# EAGLE library part LAZURITE_BASIC (library lazurite)
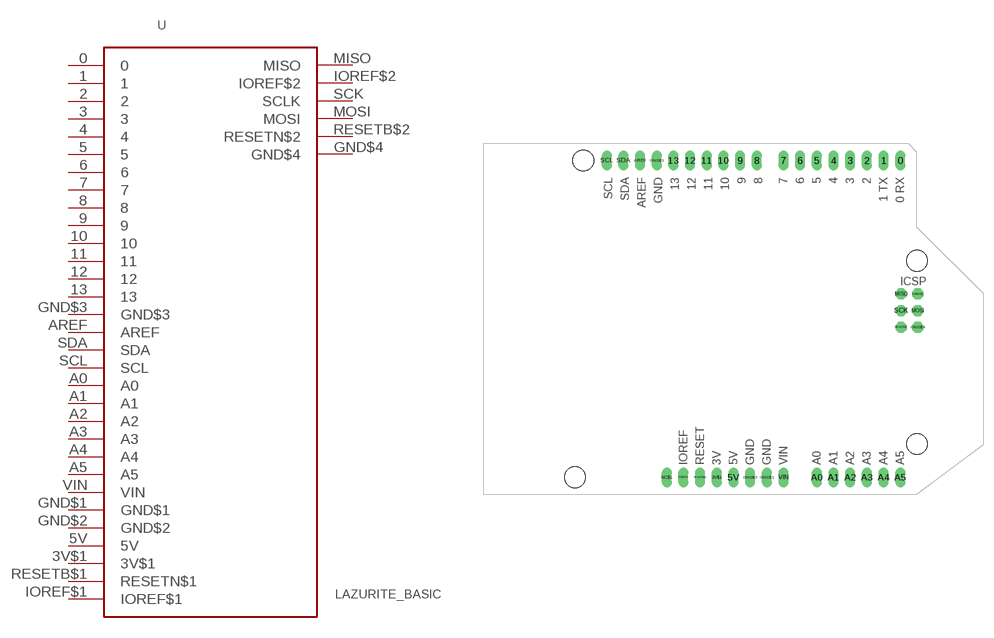
[diagram p8: symbol with the pads of LAZURITE_BASIC; footprint LAZURITE_BASIC]

Designator prefix -

## LAZURITE_BASIC  [LAZURITE_BASIC]
0  0
1  1
2  2
3  3
3V$1  3V$1  pwr
4  4
5  5
5V  5V  pwr
6  6
7  7
8  8
9  9
10  10
11  11
12  12
13  13
A0  A0
A1  A1
A2  A2
A3  A3
A4  A4
A5  A5
AREF  AREF  pwr
GND$1  GND$1  pwr
GND$2  GND$2  pwr
GND$3  GND$3  pwr
GND$4  GND$4  pwr
IOREF$1  IOREF$1
IOREF$2  IOREF$2  pwr
MISO  MISO
MOSI  MOSI
RESETB$1  RESETN$1
RESETB$2  RESETN$2
SCK  SCLK
SCL  SCL
SDA  SDA
VIN  VIN  pwr

## Footprint LAZURITE_BASIC (pad centres in mm)
drill 1.016 long: 0 63.5,50.8; 1 60.96,50.8; 2 58.42,50.8; 3 55.88,50.8; 3V$1 35.56,2.54; 4 53.34,50.8; 5 50.8,50.8; 5V 38.1,2.54; 6 48.26,50.8; 7 45.72,50.8; 8 41.656,50.8; 9 39.116,50.8; 10 36.576,50.8; 11 34.036,50.8; 12 31.496,50.8; 13 28.956,50.8; A0 50.8,2.54; A1 53.34,2.54; A2 55.88,2.54; A3 58.42,2.54; A4 60.96,2.54; A5 63.5,2.54; AREF 23.876,50.8; GND$1 43.18,2.54; GND$2 40.64,2.54; GND$3 26.416,50.8; IOREF$1 30.48,2.54; NC$1 27.94,2.54; RESETB$1 33.02,2.54; SCL 18.796,50.8; SDA 21.336,50.8; VIN 45.72,2.54
drill 1.016 pad 1.676 octagon: GND$4 66.167,25.4; IOREF$2 66.167,30.48; MISO 63.627,30.48; MOSI 66.167,27.94; RESETB$2 63.627,25.4; SCK 63.627,27.94
hole 3.175 at 15.24,50.8
hole 3.175 at 13.97,2.54
hole 3.175 at 66.04,7.62
hole 3.175 at 66.04,35.56